# Altium schematic symbol library Buzzer_surfacemount.SchLib: 1 symbol
Pins are listed as number, name and electrical type; pins without a type are passive.

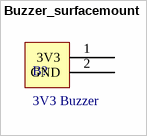
[diagram p0: symbol Buzzer_surfacemount]

## Buzzer_surfacemount
designator B?, comment 3V3 Buzzer
AUDIO PIEZO INDICATOR 2-5V TH; Supplier: Digikey; Supplier Part Number: 668-1204-ND
footprint Buzzer_surfacemount
pins: 1 3V3, 2 GND